# Altium schematic symbol library Kursovaya.schlib: 36 symbols
Pins are listed as number, name and electrical type; pins without a type are passive.

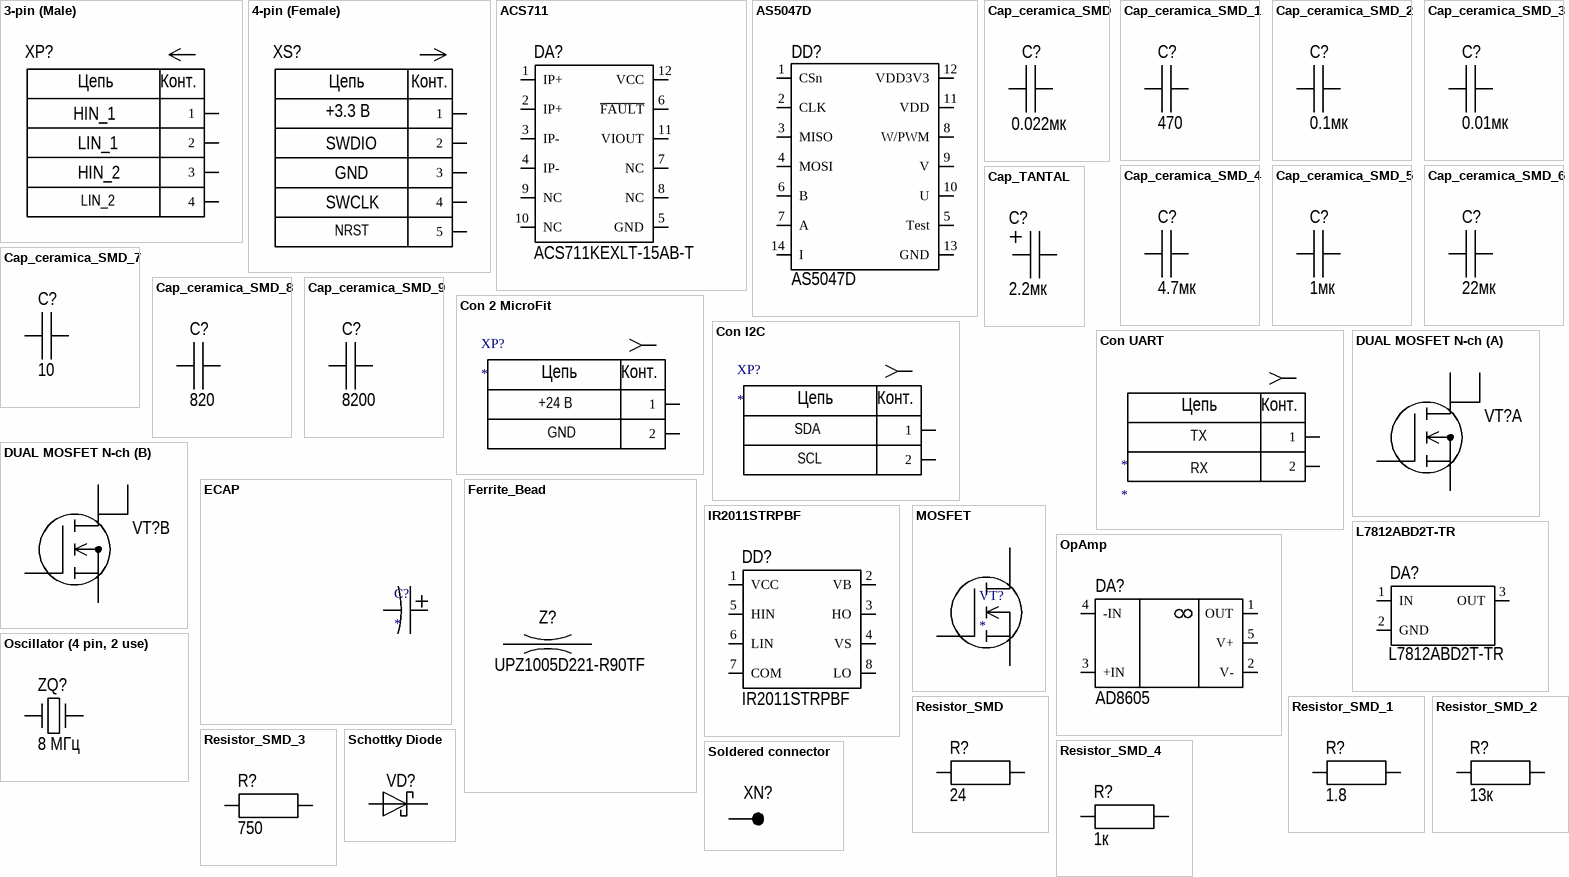
[diagram p0: symbols 3-pin (Male) to Soldered connector]

## 3-pin (Male)
designator XP?  Pin 1: HIN_1  Pin 2: LIN_1  Pin 3: HIN_2  (hidden comment: 3-pin (Male))
DJK-02A; Part Number: 533750310 Molex
footprint MolexMicroFit 4x1
pins: 1, 2, 3, 4
text: Цепь; Конт.; LIN_2

## 4-pin (Female)
designator XS?  Pin 4: GND  Pin 3: SWCLK  Pin 2: SWDIO  Pin 1: +3.3 В  (hidden comment: 4-pin (Female))
Part Number: PBS-4
footprint PLS 5x1 (Connector; Header; 5 Position)
pins: 1, 2, 3, 4, 5
text: Цепь; Конт.; NRST

## ACS711
designator DA?  Part Number: ACS711KEXLT-15AB-T  (hidden comment: ACS711)
Current Sensor
footprint SENSOR: ACS711 (QFN, 12 pin)
pins: 1 IP+, 2 IP+, 3 IP-, 4 IP-, 5 GND, 6 ~{FAULT}, 7 NC, 8 NC, 9 NC, 10 NC, 11 VIOUT, 12 VCC

## AS5047D
designator DD?
Ratary Position Sensor; Part Number: AS5047D
footprint 14-TSSOP
pins: 1 CSn, 2 CLK, 3 MISO, 4 MOSI, 5 Test, 6 B, 7 A, 8 W/PWM, 9 V, 10 U, 11 VDD, 12 VDD3V3, 13 GND, 14 I

## Cap_ceramica_SMD
designator C?  value 0.022мк  (hidden comment: Cap_ceramica_SMD)
Capacitor ceramic SMD; Part Number: CL05C220JB5NNNC; Voltage: 50
footprint CAP: 0603 Min_Silk
footprint CAP: 0805 MIN_SILK
footprint CAP: 0402
footprint 0603 Capicator
pins: 1, 2

## Cap_ceramica_SMD_1
designator C?, comment value 470  (hidden comment: Cap_ceramica_SMD)
Capacitor ceramic SMD; Part Number: CL05B471KB5NNNC; Voltage: 50
footprint CAP: 0603 Min_Silk
footprint CAP: 0805 MIN_SILK
footprint CAP: 0402
footprint 0603 Capicator
pins: 1, 2

## Cap_ceramica_SMD_2
designator C?, comment value 0.1мк  (hidden comment: Cap_ceramica_SMD)
Capacitor ceramic SMD; Part Number: CL05B104KP5NNNC; Voltage: 10
footprint CAP: 0603 Min_Silk
footprint CAP: 0805 MIN_SILK
footprint CAP: 0402
footprint 0603 Capicator
footprint 0603 Capicator
footprint 1206 Capacitor
pins: 1, 2

## Cap_ceramica_SMD_3
designator C?, comment value 0.01мк  (hidden comment: Cap_ceramica_SMD)
Capacitor ceramic SMD; Part Number: CL05B103KA5NNNC; Voltage: 25
footprint CAP: 0603 Min_Silk
footprint CAP: 0805 MIN_SILK
footprint CAP: 0402
footprint 0603 Capicator
pins: 1, 2

## Cap_ceramica_SMD_4
designator C?, comment value 4.7мк  (hidden comment: Cap_ceramica_SMD)
Capacitor ceramic SMD; Part Number: CL05A475KP5NRNC; Voltage: 10
footprint CAP: 0603 Min_Silk
footprint CAP: 0805 MIN_SILK
footprint CAP: 0402
footprint 0603 Capicator
pins: 1, 2

## Cap_ceramica_SMD_5
designator C?, comment value 1мк  (hidden comment: Cap_ceramica_SMD)
Capacitor ceramic SMD; Part Number: CL05A105KP5NNNC; Voltage: 10
footprint CAP: 0603 Min_Silk
footprint CAP: 0805 MIN_SILK
footprint CAP: 0402
footprint 0603 Capicator
pins: 1, 2

## Cap_ceramica_SMD_6
designator C?, comment value 22мк  (hidden comment: Cap_ceramica_SMD)
Capacitor ceramic SMD; Part Number: CL21A226MAQNNNE; Voltage: 25
footprint CAP: 0603 Min_Silk
footprint CAP: 0805 MIN_SILK
footprint CAP: 0402
footprint 0603 Capicator
pins: 1, 2

## Cap_ceramica_SMD_7
designator C?, comment value 10  (hidden comment: Cap_ceramica_SMD)
Capacitor ceramic SMD; Part Number: CL05C100JB5NNNC; Voltage: 50
footprint CAP: 0603 Min_Silk
footprint CAP: 0805 MIN_SILK
footprint CAP: 0402
footprint 0603 Capicator
pins: 1, 2

## Cap_ceramica_SMD_8
designator C?, comment value 820  (hidden comment: Cap_ceramica_SMD)
Capacitor ceramic SMD; Part Number: CL05C821JB5NNNC; Voltage: 50
footprint CAP: 0603 Min_Silk
footprint CAP: 0805 MIN_SILK
footprint CAP: 0402
footprint 0603 Capicator
pins: 1, 2

## Cap_ceramica_SMD_9
designator C?, comment value 8200  (hidden comment: Cap_ceramica_SMD)
Capacitor ceramic SMD; Part Number: CC0402JRX7R8BB822; Voltage: 25
footprint CAP: 0603 Min_Silk
footprint CAP: 0805 MIN_SILK
footprint CAP: 0402
footprint 0603 Capicator
pins: 1, 2

## Cap_TANTAL
designator C?  value 2.2мк  (hidden comment: Cap_TANTAL)
Capacitor tantalum; Part Number: 293D225X9016A2TE3; Voltage: 16
footprint CAP: TANTAL-A
footprint CAP: TANTAL-B
footprint CAP: TANTAL-C
footprint CAP: TANTAL-D
footprint CAP: TANTAL-E
pins: 1, 2

## Con 2 MicroFit
designator XP?
footprint MolexMicroFit 2x1
pins: 1, 2
text: Цепь; Конт.; +24 В; GND

## Con I2C
designator XP?
footprint MolexMicroFit 2x1
pins: 1, 2
text: Цепь; Конт.; SDA; SCL

## Con UART
designator *
footprint Con UART
pins: 1, 2
text: Цепь; Конт.; TX; RX

## DUAL MOSFET N-ch
designator VT?  (value not drawn)
Part Number: IPG20N04S4-18A
footprint 8-TDSON (DUAL MOSFET) (SON, 8-Leads, Body 5,15x5,90mm, Pitch 1,27mm, IPC High Density)
part A pins: 1 S1, 2 G1, 7 D1.1, 8 D1.2
part B pins: 3 S2, 4 G2, 5 D2.1, 6 D2.2

## ECAP
designator C?
footprint ECAO 12.5x25
footprint ECAP 8x16mm
pins: 1, 2

## Ferrite_Bead
designator Z?  Part Number: UPZ1005D221-R90TF  (hidden comment: Ferrite_Bead)
Chip Ferrite Bead
footprint IND: 0603
footprint IND: 0402
pins: 1, 2

## IR2011STRPBF
designator DD?, comment Part Number: IR2011STRPBF  (hidden comment: IRS21867S)
HIGH AND LOW SIDE DRIVER
footprint 8-SOIC (pitch 1.27 mm)
pins: 1 VCC, 2 VB, 3 HO, 4 VS, 5 HIN, 6 LIN, 7 COM, 8 LO

## L7812ABD2T-TR
designator DA?, comment Part Number: L7812ABD2T-TR  (hidden comment: MIC5219-3.3YM5)
LDO Regulator
footprint D2-PAK (TO-262)
pins: 1 IN, 2 GND, 3 OUT

## MOSFET
designator VT?
footprint TO-220 (TO, Thru-Hole, Vertical, Heatsink Mounted; 3 In-Line Leads; Pitch 2.54 mm)
pins: 1 G1, 2 S1, 3 D1.1

## OpAmp
designator DA?  Part Number: AD8605  (hidden comment: OpAmp)
footprint SOT23-5 (pitch 0.95 mm)
pins: 1 OUT, 2 V-, 3 +IN, 4 -IN, 5 V+

## Oscillator (4 pin, 2 use)
designator ZQ?  value 8 МГц  (hidden comment: Oscillator (4 pin, 2 use))
Quartz Crystal; Part Number: 1C208000CE0Q
footprint OSC: 3225
footprint R38 (Crystal)
pins: 1, 2

## Resistor_SMD
designator R?  value 24  (hidden comment: Resistor_SMD)
Resistor SMD; Part Number: ERJPA3J240V
footprint RES: 0603 Min_Silk
footprint RES: 0603
footprint RES: 0805
footprint RES: 0402
pins: 1, 2

## Resistor_SMD_1
designator R?, comment value 1.8  (hidden comment: Resistor_SMD)
Resistor SMD; Part Number: ERJPA3J1R8V
footprint RES: 0603 Min_Silk
footprint RES: 0603
footprint RES: 0805
footprint RES: 0402
pins: 1, 2

## Resistor_SMD_2
designator R?, comment value 13к  (hidden comment: Resistor_SMD)
Resistor SMD; Part Number: ERJPA2F1302X
footprint RES: 0603 Min_Silk
footprint RES: 0603
footprint RES: 0805
footprint RES: 0402
pins: 1, 2

## Resistor_SMD_3
designator R?, comment value 750  (hidden comment: Resistor_SMD)
Resistor SMD; Part Number: ERJPA2F7500X
footprint RES: 0603 Min_Silk
footprint RES: 0603
footprint RES: 0805
footprint RES: 0402
pins: 1, 2

## Resistor_SMD_4
designator R?, comment value 1к  (hidden comment: Resistor_SMD)
Resistor SMD; Part Number: ERJPA2J102X
footprint RES: 0603 Min_Silk
footprint RES: 0603
footprint RES: 0805
footprint RES: 0402
pins: 1, 2

## Schottky Diode
designator VD?  (value not drawn)
Part Number: MBR130LSFT1G
footprint DIODE: SOD123LF (SODFL, 2-Leads, Body 1,65x3,60mm, IPC High Density)
pins: 1, 2

## Soldered connector
designator XN?  (value not drawn)
footprint CON: Pad 3mm
pins: 1

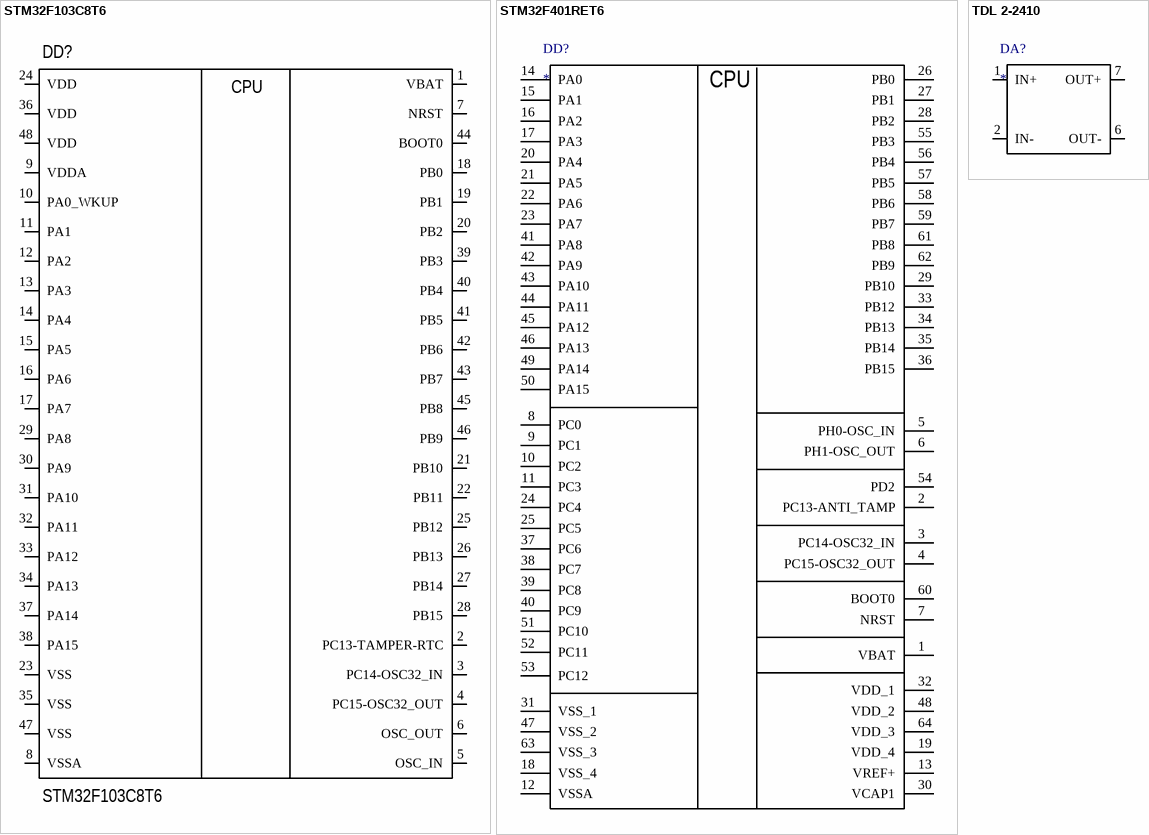
[diagram p1: symbols STM32F103C8T6 to TDL 2-2410]

## STM32F103C8T6
designator DD?
Part Number: STM32F103C8T6
footprint 48-LQFP (QFP, 48-Leads, Body 7x7mm, Pitch 0.5mm, IPC Medium Density)
pins: 1 VBAT, 2 PC13-TAMPER-RTC, 3 PC14-OSC32_IN, 4 PC15-OSC32_OUT, 5 OSC_IN, 6 OSC_OUT, 7 NRST, 8 VSSA, 9 VDDA, 10 PA0_WKUP, 11 PA1, 12 PA2, 13 PA3, 14 PA4, 15 PA5, 16 PA6, 17 PA7, 18 PB0, 19 PB1, 20 PB2, 21 PB10, 22 PB11, 23 VSS, 24 VDD, 25 PB12, 26 PB13, 27 PB14, 28 PB15, 29 PA8, 30 PA9, 31 PA10, 32 PA11, 33 PA12, 34 PA13, 35 VSS, 36 VDD, 37 PA14, 38 PA15, 39 PB3, 40 PB4, 41 PB5, 42 PB6, 43 PB7, 44 BOOT0, 45 PB8, 46 PB9, 47 VSS, 48 VDD
text: CPU

## STM32F401RET6
designator DD?
footprint LQFP64
pins: 1 VBAT, 2 PC13-ANTI_TAMP "PC13-TAMPER-RTC/PC13/TAMPER-RTC", 3 PC14-OSC32_IN "PC14-OSC32_IN/PC14/OSC32_IN", 4 PC15-OSC32_OUT "PC15-OSC32_OUT/PC15/OSC32_OUT", 5 PH0-OSC_IN "PD0/OSC_IN", 6 PH1-OSC_OUT "PD1/OSC_OUT", 7 NRST, 8 PC0 "PC0/ADC12_IN10", 9 PC1 "PC1/ADC12_IN11/ETH_MII_MDC/ETH_RMII_MDC", 10 PC2 "PC2/ADC12_IN12/ETH_MII_TXD2", 11 PC3 "PC3/ADC12_IN13/ETH_MII_TX_CLK", 12 VSSA, 13 VREF+ "VDDA", 14 PA0 "PA0-WKUP/PA0/WKUP/USART2_CTS/ADC12_IN0/TIM2_CH1_ETR/TIM5_CH1/ETH_MII_CRS_WKUP", 15 PA1 "PA1/USART2_RTS/ADC12_IN1/TIM5_CH2/TIM2_CH2/ETH_MII_RX_CLK/ETH_RMII_REF_CLK", 16 PA2 "PA2/USART2_TX/TIM5_CH3/ADC12_IN2/TIM2_CH3/ETH_MII_MDIO/ETH_RMII_MDIO", 17 PA3 "PA3/USART2_RX/TIM5_CH4/ADC12_IN3/TIM2_CH4/ETH_MII_COL", 18 VSS_4, 19 VDD_4, 20 PA4 "PA4/SPI1_NSS/DAC_OUT1/USART2_CK/ADC12_IN4/SPI3_NSS/I2S3_WS", 21 PA5 "PA5/SPI1_SCK/DAC_OUT2/ADC12_IN5", 22 PA6 "PA6/SPI1_MISO/ADC12_IN6/TIM3_CH1/TIM1_BKIN", 23 PA7 "PA7/SPI1_MOSI/ADC12_IN7/TIM3_CH2/ETH_MII_RX_DV/ETH_RMII_CRS_DV/TIM1_CH1N", 24 PC4 "PC4/ADC12_IN14/ETH_MII_RXD0/ETH_RMII_RXD0", 25 PC5 "PC5/ADC12_IN15/ETH_MII_RXD1/ETH_RMII_RXD1", 26 PB0 "PB0/ADC12_IN8/TIM3_CH3/ETH_MII_RXD2/TIM1_CH2N", 27 PB1 "PB1/ADC12_IN9/TIM3_CH4/ETH_MII_RXD3/TIM1_CH3N", 28 PB2 "PB2/BOOT1", 29 PB10 "PB10/I2C2_SCL/USART3_TX/ETH_MII_RX_ER/TIM2_CH3", 30 VCAP1 "VDDA", 31 VSS_1, 32 VDD_1, 33 PB12 "PB12/SPI2_NSS/I2S2_WS/I2C2_SMBA/USART3_CK/TIM1_BKIN/CAN2_RX/ETH_MII_TXD0/ETH_RMII_TXD0", 34 PB13 "PB13/SPI2_SCK/I2S2_CK/USART3_CTS/TIM1_CH1N/CAN2_TX/ETH_MII_TXD1/ETH_RMII_TXD1", 35 PB14 "PB14/SPI2_MISO/TIM1_CH2N/USART3_RTS", 36 PB15 "PB15/SPI2_MOSI/I2S2_SD/TIM1_CH3N", 37 PC6 "PC6/I2S2_MCK/TIM3_CH1", 38 PC7 "PC7/I2S3_MCK/TIM3_CH2", 39 PC8 "PC8/TIM3_CH3", 40 PC9 "PC9/TIM3_CH4", 41 PA8 "PA8/USART1_CK/OTG_FS_SOF/TIM1_CH1/MCO", 42 PA9 "PA9/USART1_TX/TIM1_CH2/OTG_FS_VBUS", 43 PA10 "PA10/USART1_RX/TIM1_CH3/OTG_FS_ID", 44 PA11 "PA11/USART1_CTS/CAN1_RX/TIM1_CH4/OTG_FS_DM", 45 PA12 "PA12/USART1_RTS/OTG_FS_DP/CAN1_TX/TIM1_ETR", 46 PA13 "PA13/JTMS-SWDIO", 47 VSS_2, 48 VDD_2, 49 PA14 "PA14/JTCK-SWCLK", 50 PA15 "PA15/JTDI/SPI3_NSS/I2S3_WS/TIM2_CH1_ETR/SPI1_NSS", 51 PC10 "PC10/UART4_TX/USART3_TX/SPI3_SCK/I2S3_CK", 52 PC11 "PC11/UART4_RX/USART3_RX/SPI3_MISO", 53 PC12 "PC12/UART5_TX/USART3_CK/SPI3_MOSI/I2S3_SD", 54 PD2 "PD2/TIM3_ETR/UART5_RX", 55 PB3 "PB3/JTDO/SPI3_SCK/I2S3_CK/TRACESWO/TIM2_CH2/SPI1_SCK", 56 PB4 "PB4/NJTRST/SPI3_MISO/TIM3_CH1/SPI1_MISO", 57 PB5 "PB5/I2C1_SMBA/SPI3_MOSI/ETH_MII_PPS_OUT/I2S3_SD/ETH_RMII_PPS_OUT/TIM3_CH2/SPI1_MOSI/CAN2_RX", 58 PB6 "PB6/I2C1_SCL/TIM4_CH1/USART1_TX/CAN2_TX", 59 PB7 "PB7/I2C1_SDA/TIM4_CH2/USART1_RX", 60 BOOT0, 61 PB8 "PB8/TIM4_CH3/ETH_MII_TXD3/I2C1_SCL/CAN1_RX", 62 PB9 "PB9/TIM4_CH4/I2C1_SDA/CAN1_TX", 63 VSS_3, 64 VDD_3
text: CPU

## TDL 2-2410
designator DA?
footprint TDN 1-2410WI
pins: 1 IN+, 2 IN-, 6 OUT-, 7 OUT+